# Altium schematic symbol library ERJ-3GEY0R00V.SchLib: 1 symbol
Pins are listed as number, name and electrical type; pins without a type are passive.

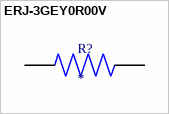
[diagram p0: symbol ERJ-3GEY0R00V]

## ERJ-3GEY0R00V
designator R?
<a href="https://pricing.snapeda.com/parts/ERJ-3GEY0R00V/Panasonic/view-part?ref=eda">Check availability</a>; MF: {'manufacturer': u'Panasonic'}; Package: None; Price: None; Value: *; MP: ERJ-3GEY0R00V; Availability: Unavailable
footprint RES_ERJ-3GEY0R00V
pins: 1, 2